# Altium footprint library Public Library.PcbLib: 36 footprints (part 3 of 3)
Each footprint in its own frame and in the unit in brackets; x right, y up, seen from the top. Pads: shape width x height; smd on the part's side, far side on the other; paste and mask are expansions set on the pad; w line width, h text height; cw(c..) or ccw(c..) is an arc to the next point about the centre after c.
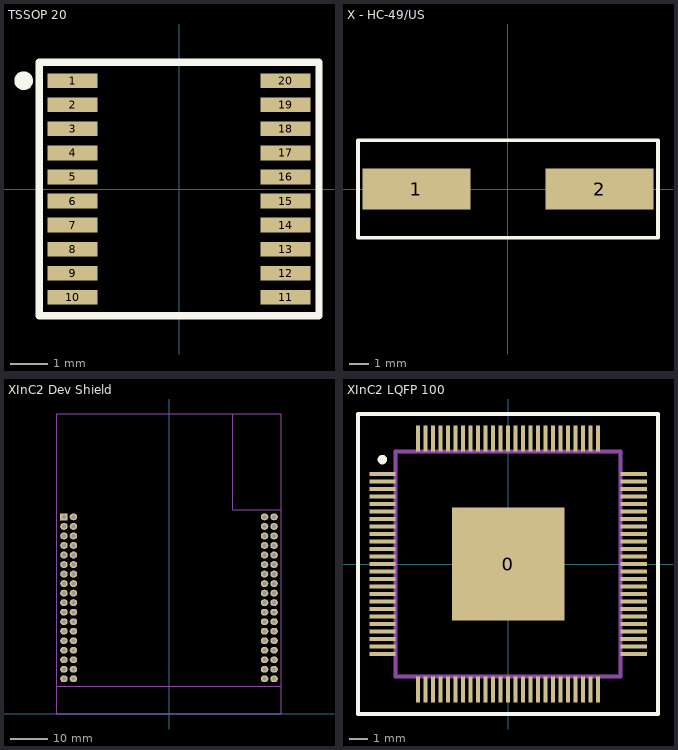
[diagram p2: the footprints below, top view; thin cyan lines are the x and y axes]

## TSSOP 20 [mm] "from STM32F042F4P6"
pads (20):
  rect 1.35x0.4 smd mask+0.05: 1(-2.875,2.925) 2(-2.875,2.275) 3(-2.875,1.625) 4(-2.875,0.975) 5(-2.875,0.325) 6(-2.875,-0.325) 7(-2.875,-0.975) 8(-2.875,-1.625) 9(-2.875,-2.275) 10(-2.875,-2.925) 11(2.875,-2.925) 12(2.875,-2.275) 13(2.875,-1.625) 14(2.875,-0.975) 15(2.875,-0.325) 16(2.875,0.325) 17(2.875,0.975) 18(2.875,1.625) 19(2.875,2.275) 20(2.875,2.925)
Top Overlay:
  circle w0.254: c-4.2,2.925 r0.125
  lines w0.2: -3.775,-3.425 3.775,-3.425 3.775,3.425 -3.775,3.425 -3.775,-3.425
3D body "TSSOP 20.stp": height 1.31, standoff -0.01, extent -3.208,-3.25 3.208,3.25

## X - HC-49/US [mm] "from 535-15010-1-ND"
pads (2):
  rect 5.6x2.1 smd mask+0.05: 1(-4.75,0) 2(4.75,0)
Top Overlay:
  lines w0.2: -7.775,-2.525 -7.775,2.525 7.775,2.525 7.775,-2.525 -7.775,-2.525
3D body "HC49 US.STEP": height 4.2, standoff 0, extent -6.35,-2.35 6.35,2.35

## XInC2 Dev Shield [mm]
pads (72):
  rect 2x1.8 hole 1 mask+0.05: 1(-28.02,52.56)
  oval 2x1.8 hole 1 mask+0.05: 2(-25.48,52.56) 3(-28.02,50.02) 4(-25.48,50.02) 5(-28.02,47.48) 6(-25.48,47.48) 7(-28.02,44.94) 8(-25.48,44.94) 9(-28.02,42.4) 10(-25.48,42.4) 11(-28.02,39.86) 12(-25.48,39.86) 13(-28.02,37.32) 14(-25.48,37.32) 15(-28.02,34.78) 16(-25.48,34.78) 17(-28.02,32.24) 18(-25.48,32.24) 19(-28.02,29.7) 20(-25.48,29.7) 21(-28.02,27.16) 22(-25.48,27.16) 23(-28.02,24.62) 24(-25.48,24.62) 25(-28.02,22.08) 26(-25.48,22.08) 27(-28.02,19.54) 28(-25.48,19.54) 29(-28.02,17) 30(-25.48,17) 31(-28.02,14.46) 32(-25.48,14.46) 33(-28.02,11.92) 34(-25.48,11.92) 35(-28.02,9.38) 36(-25.48,9.38) 37(25.48,52.56) 38(28.02,52.56) 39(25.48,50.02) 40(28.02,50.02) 41(25.48,47.48) 42(28.02,47.48) 43(25.48,44.94) 44(28.02,44.94) 45(25.48,42.4) 46(28.02,42.4) 47(25.48,39.86) 48(28.02,39.86) 49(25.48,37.32) 50(28.02,37.32) 51(25.48,34.78) 52(28.02,34.78) 53(25.48,32.24) 54(28.02,32.24) 55(25.48,29.7) 56(28.02,29.7) 57(25.48,27.16) 58(28.02,27.16) 59(25.48,24.62) 60(28.02,24.62) 61(25.48,22.08) 62(28.02,22.08) 63(25.48,19.54) 64(28.02,19.54) 65(25.48,17) 66(28.02,17) 67(25.48,14.46) 68(28.02,14.46) 69(25.48,11.92) 70(28.02,11.92) 71(25.48,9.38) 72(28.02,9.38)
Mechanical 3:
  lines w0.2: -30,7.4 30,7.4 ; 17,80 17,54.4 30,54.4 ; -30,0 -30,80 30,80 30,0 -30,0
3D body "SSQ-118-03-T-D.stp": height 8.31, standoff -10.21, extent 24.273,7.856 29.227,54.084
3D body "SSQ-118-03-T-D.stp": height 8.31, standoff -10.21, extent -29.227,7.856 -24.273,54.084

## XInC2 LQFP 100 [mm] "3D model is TQFP, not LQFP"
pads (101):
  rrect0% 6x6 smd: 0(0,0)
  rect 1.4x0.2 smd: 1(-6.7,4.8) 2(-6.7,4.4) 3(-6.7,4) 4(-6.7,3.6) 5(-6.7,3.2) 6(-6.7,2.8) 7(-6.7,2.4) 8(-6.7,2) 9(-6.7,1.6) 10(-6.7,1.2) 11(-6.7,0.8) 12(-6.7,0.4) 13(-6.7,0) 14(-6.7,-0.4) 15(-6.7,-0.8) 16(-6.7,-1.2) 17(-6.7,-1.6) 18(-6.7,-2) 19(-6.7,-2.4) 20(-6.7,-2.8) 21(-6.7,-3.2) 22(-6.7,-3.6) 23(-6.7,-4) 24(-6.7,-4.4) 25(-6.7,-4.8) 51(6.7,-4.8) 52(6.7,-4.4) 53(6.7,-4) 54(6.7,-3.6) 55(6.7,-3.2) 56(6.7,-2.8) 57(6.7,-2.4) 58(6.7,-2) 59(6.7,-1.6) 60(6.7,-1.2) 61(6.7,-0.8) 62(6.7,-0.4) 63(6.7,0) 64(6.7,0.4) 65(6.7,0.8) 66(6.7,1.2) 67(6.7,1.6) 68(6.7,2) 69(6.7,2.4) 70(6.7,2.8) 71(6.7,3.2) 72(6.7,3.6) 73(6.7,4) 74(6.7,4.4) 75(6.7,4.8)
  rect 0.2x1.4 smd: 26(-4.8,-6.7) 27(-4.4,-6.7) 28(-4,-6.7) 29(-3.6,-6.7) 30(-3.2,-6.7) 31(-2.8,-6.7) 32(-2.4,-6.7) 33(-2,-6.7) 34(-1.6,-6.7) 35(-1.2,-6.7) 36(-0.8,-6.7) 37(-0.4,-6.7) 38(0,-6.7) 39(0.4,-6.7) 40(0.8,-6.7) 41(1.2,-6.7) 42(1.6,-6.7) 43(2,-6.7) 44(2.4,-6.7) 45(2.8,-6.7) 46(3.2,-6.7) 47(3.6,-6.7) 48(4,-6.7) 49(4.4,-6.7) 50(4.8,-6.7) 76(4.8,6.7) 77(4.4,6.7) 78(4,6.7) 79(3.6,6.7) 80(3.2,6.7) 81(2.8,6.7) 82(2.4,6.7) 83(2,6.7) 84(1.6,6.7) 85(1.2,6.7) 86(0.8,6.7) 87(0.4,6.7) 88(0,6.7) 89(-0.4,6.7) 90(-0.8,6.7) 91(-1.2,6.7) 92(-1.6,6.7) 93(-2,6.7) 94(-2.4,6.7) 95(-2.8,6.7) 96(-3.2,6.7) 97(-3.6,6.7) 98(-4,6.7) 99(-4.4,6.7) 100(-4.8,6.7)
Top Overlay:
  circle w0.254: c-6.7,5.57 r0.125
  lines w0.2: -8,-8 8,-8 8,8 -8,8 -8,-8
Mechanical 3:
  lines w0.2: -0.5,0 0,0 ; 0,-0.5 0,0 ; 0,0.5 0,0 ; 0.5,0 0,0 ; -6,-6 -6,6 6,6 6,-6 -6,-6
3D body "TQFP100 0_4mm.step": height 1.2, standoff 0, extent -7,-7 7,7